# Altium schematic symbol library 10MQ040N.SchLib: 1 symbol
Pins are listed as number, name and electrical type; pins without a type are passive.

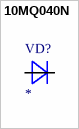
[diagram p0: symbol 10MQ040N]

## 10MQ040N
designator VD?
Diode Schottky 40V 1A Surface Mount SMA/DO-214AC; MF: Vishay Semiconductor; MP: 10MQ100N; SnapEDA_Link: https://www.snapeda.com/parts/10MQ100N/Vishay%20Semiconductor%20Diodes%20Division/view-part/612923/?ref=snap; Availability: Not in stock; Check_prices: https://www.snapeda.com/parts/10MQ100N/Vishay%20Semiconductor%20Diodes%20Division/view-part/612923/?ref=eda; Value: *; Package: DO-214 International Rectifier; Price: None
footprint 10MQ040N
pins: A, K C